# EAGLE library part LM224APT (library ST Microelectronics)
Low power quad operational amplifiers
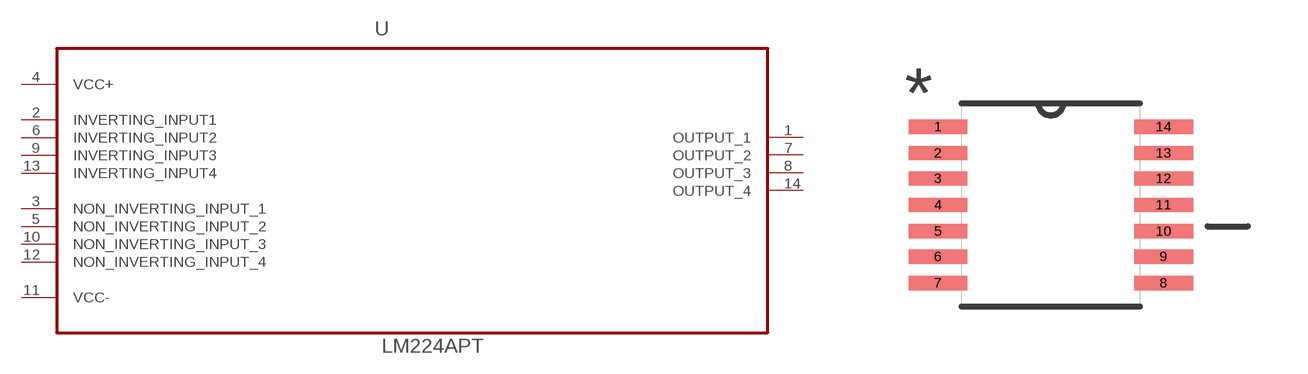
[diagram p91: symbol with the pads of SOP65P640X120-14N; footprint SOP65P640X120-14N]

Designator prefix U

## LM224APT (MPN: LM224APT; OC_FARNELL: 1750140; OC_NEWARK: 33R0193; PACKAGE: TSSOP-14; SUPPLIER: STMICROELECTRONICS)  [SOP65P640X120-14N]
1  OUTPUT_1  out
2  INVERTING_INPUT1  in
3  NON_INVERTING_INPUT_1  in
4  VCC+  pwr
5  NON_INVERTING_INPUT_2  in
6  INVERTING_INPUT2  in
7  OUTPUT_2  out
8  OUTPUT_3  out
9  INVERTING_INPUT3  in
10  NON_INVERTING_INPUT_3  in
11  VCC-  pwr
12  NON_INVERTING_INPUT_4  in
13  INVERTING_INPUT4  in
14  OUTPUT_4  out

## Footprint SOP65P640X120-14N (pad centres in mm)
smd 1.473 x 0.356: 1 -2.819,1.956; 2 -2.819,1.295; 3 -2.819,0.66; 4 -2.819,0; 5 -2.819,-0.66; 6 -2.819,-1.295; 7 -2.819,-1.956; 8 2.819,-1.956; 9 2.819,-1.295; 10 2.819,-0.66; 11 2.819,0; 12 2.819,0.66; 13 2.819,1.295; 14 2.819,1.956